# Altium schematic symbol library SCH - DIODES - TVS BI.SCHLIB: 2 symbols
Pins are listed as number, name and electrical type; pins without a type are passive.

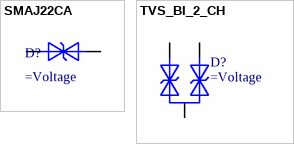
[diagram p0: symbols SMAJ22CA to TVS_BI_2_CH]

## SMAJ22CA
designator D?
Diode, TVS, Bi, 22V
pins: 1, 2

## TVS_BI_2_CH
designator D?
Diode, TVS, Bi, Dual Channel
pins: 1 K1, 2 K2, 3 A